# Altium schematic symbol library TPS3700-SOT23-6.SchLib: 1 symbol
Pins are listed as number, name and electrical type; pins without a type are passive.

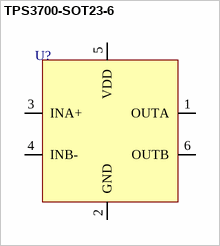
[diagram p0: symbol TPS3700-SOT23-6]

## TPS3700-SOT23-6
designator U?  (value not drawn)
pins: 1 OUTA, 2 GND, 3 INA+, 4 INB-, 5 VDD, 6 OUTB